# Altium integrated library Xilinx Spartan-3A.IntLib: 90 symbols (part 50 of 55)
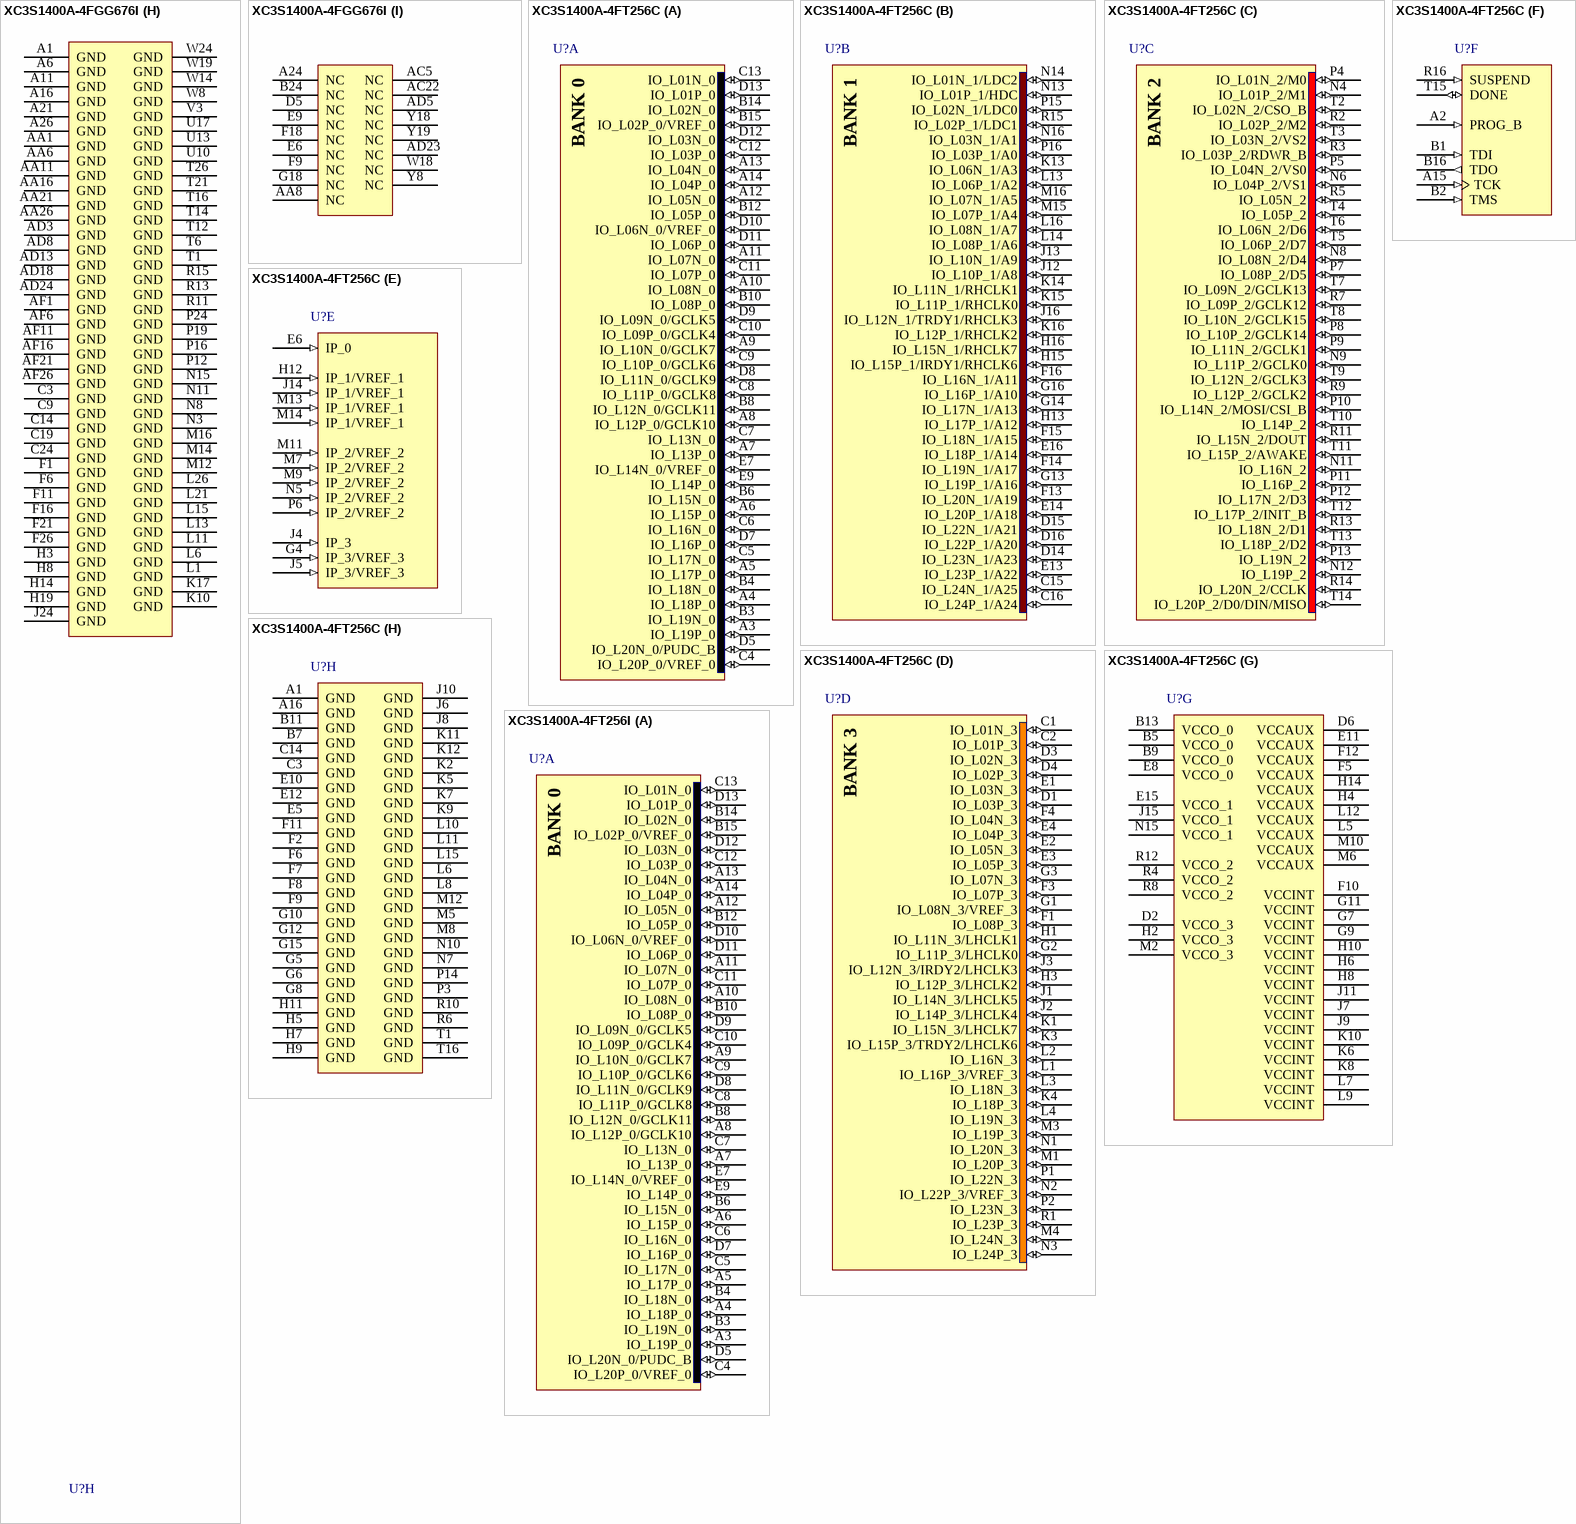
[diagram p145: symbols XC3S1400A-4FGG676I to XC3S1400A-4FT256I]

## XC3S1400A-4FT256C
designator U?
Spartan-3A I/O Optimized FPGA, 161 User I/Os, 256-Ball FTBGA, Standard Performance, Commercial Grade; Published: 17-Oct-2008; LatestRevisionDate: 24-Apr-2009; LatestRevisionNote: Updated to datasheet version 1.8 March 2009; DatasheetVersion: ver1.8, Mar-2009; PackageVersion: ver1.3, Oct-2007; PackageReference: FT256; Publisher: Altium Limited; PackageDescription: 256-Ball Fine Pitch Thin Ball Grid Array 1.00 mm Pitch (FT256); Code_JEDEC: MS-034-AAF-1*; ComponentLink1Description: Manufacturer Link; ComponentLink1URL: http://www.xilinx.com/products/spartan3a/; ComponentLink2Description: Datasheet; ComponentLink2URL: http://www.xilinx.com/support/documentation/data_sheets/ds529.pdf
footprint FT256 (BGA, 256-Leads, Body 17x17mm, Pitch 1mm)
3D model XC3S1400A-FT256 (256-Ball Fine Pitch Thin Ball Grid Array 1.00 mm Pitch (FT256))
signal-integrity model XC3S1400A_FT256 (Spartan-3A)
part A pins: A3 IO_L19P_0 (io), A4 IO_L18P_0 (io), A5 IO_L17P_0 (io), A6 IO_L15P_0 (io), A7 IO_L13P_0 (io), A8 IO_L12P_0/GCLK10 (io), A9 IO_L10N_0/GCLK7 (io), A10 IO_L08N_0 (io), A11 IO_L07N_0 (io), A12 IO_L05N_0 (io), A13 IO_L04N_0 (io), A14 IO_L04P_0 (io), B3 IO_L19N_0 (io), B4 IO_L18N_0 (io), B6 IO_L15N_0 (io), B8 IO_L12N_0/GCLK11 (io), B10 IO_L08P_0 (io), B12 IO_L05P_0 (io), B14 IO_L02N_0 (io), B15 IO_L02P_0/VREF_0 (io), C4 IO_L20P_0/VREF_0 (io), C5 IO_L17N_0 (io), C6 IO_L16N_0 (io), C7 IO_L13N_0 (io), C8 IO_L11P_0/GCLK8 (io), C9 IO_L10P_0/GCLK6 (io), C10 IO_L09P_0/GCLK4 (io), C11 IO_L07P_0 (io), C12 IO_L03P_0 (io), C13 IO_L01N_0 (io), D5 IO_L20N_0/PUDC_B (io), D7 IO_L16P_0 (io), D8 IO_L11N_0/GCLK9 (io), D9 IO_L09N_0/GCLK5 (io), D10 IO_L06N_0/VREF_0 (io), D11 IO_L06P_0 (io), D12 IO_L03N_0 (io), D13 IO_L01P_0 (io), E7 IO_L14N_0/VREF_0 (io), E9 IO_L14P_0 (io)
part B pins: C15 IO_L24N_1/A25 (io), C16 IO_L24P_1/A24 (io), D14 IO_L23N_1/A23 (io), D15 IO_L22N_1/A21 (io), D16 IO_L22P_1/A20 (io), E13 IO_L23P_1/A22 (io), E14 IO_L20P_1/A18 (io), E16 IO_L18P_1/A14 (io), F13 IO_L20N_1/A19 (io), F14 IO_L19N_1/A17 (io), F15 IO_L18N_1/A15 (io), F16 IO_L16N_1/A11 (io), G13 IO_L19P_1/A16 (io), G14 IO_L17N_1/A13 (io), G16 IO_L16P_1/A10 (io), H13 IO_L17P_1/A12 (io), H15 IO_L15P_1/IRDY1/RHCLK6 (io), H16 IO_L15N_1/RHCLK7 (io), J12 IO_L10P_1/A8 (io), J13 IO_L10N_1/A9 (io), J16 IO_L12N_1/TRDY1/RHCLK3 (io), K13 IO_L06N_1/A3 (io), K14 IO_L11N_1/RHCLK1 (io), K15 IO_L11P_1/RHCLK0 (io), K16 IO_L12P_1/RHCLK2 (io), L13 IO_L06P_1/A2 (io), L14 IO_L08P_1/A6 (io), L16 IO_L08N_1/A7 (io), M15 IO_L07P_1/A4 (io), M16 IO_L07N_1/A5 (io), N13 IO_L01P_1/HDC (io), N14 IO_L01N_1/LDC2 (io), N16 IO_L03N_1/A1 (io), P15 IO_L02N_1/LDC0 (io), P16 IO_L03P_1/A0 (io), R15 IO_L02P_1/LDC1 (io)
part C pins: N4 IO_L01P_2/M1 (io), N6 IO_L04P_2/VS1 (io), N8 IO_L08N_2/D4 (io), N9 IO_L11P_2/GCLK0 (io), N11 IO_L16N_2 (io), N12 IO_L19P_2 (io), P4 IO_L01N_2/M0 (io), P5 IO_L04N_2/VS0 (io), P7 IO_L08P_2/D5 (io), P8 IO_L10P_2/GCLK14 (io), P9 IO_L11N_2/GCLK1 (io), P10 IO_L14N_2/MOSI/CSI_B (io), P11 IO_L16P_2 (io), P12 IO_L17N_2/D3 (io), P13 IO_L19N_2 (io), R2 IO_L02P_2/M2 (io), R3 IO_L03P_2/RDWR_B (io), R5 IO_L05N_2 (io), R7 IO_L09P_2/GCLK12 (io), R9 IO_L12P_2/GCLK2 (io), R11 IO_L15N_2/DOUT (io), R13 IO_L18N_2/D1 (io), R14 IO_L20N_2/CCLK (io), T2 IO_L02N_2/CSO_B (io), T3 IO_L03N_2/VS2 (io), T4 IO_L05P_2 (io), T5 IO_L06P_2/D7 (io), T6 IO_L06N_2/D6 (io), T7 IO_L09N_2/GCLK13 (io), T8 IO_L10N_2/GCLK15 (io), T9 IO_L12N_2/GCLK3 (io), T10 IO_L14P_2 (io), T11 IO_L15P_2/AWAKE (io), T12 IO_L17P_2/INIT_B (io), T13 IO_L18P_2/D2 (io), T14 IO_L20P_2/D0/DIN/MISO (io)
part D pins: C1 IO_L01N_3 (io), C2 IO_L01P_3 (io), D1 IO_L03P_3 (io), D3 IO_L02N_3 (io), D4 IO_L02P_3 (io), E1 IO_L03N_3 (io), E2 IO_L05N_3 (io), E3 IO_L05P_3 (io), E4 IO_L04P_3 (io), F1 IO_L08P_3 (io), F3 IO_L07P_3 (io), F4 IO_L04N_3 (io), G1 IO_L08N_3/VREF_3 (io), G2 IO_L11P_3/LHCLK0 (io), G3 IO_L07N_3 (io), H1 IO_L11N_3/LHCLK1 (io), H3 IO_L12P_3/LHCLK2 (io), J1 IO_L14N_3/LHCLK5 (io), J2 IO_L14P_3/LHCLK4 (io), J3 IO_L12N_3/IRDY2/LHCLK3 (io), K1 IO_L15N_3/LHCLK7 (io), K3 IO_L15P_3/TRDY2/LHCLK6 (io), K4 IO_L18P_3 (io), L1 IO_L16P_3/VREF_3 (io), L2 IO_L16N_3 (io), L3 IO_L18N_3 (io), L4 IO_L19N_3 (io), M1 IO_L20P_3 (io), M3 IO_L19P_3 (io), M4 IO_L24N_3 (io), N1 IO_L20N_3 (io), N2 IO_L22P_3/VREF_3 (io), N3 IO_L24P_3 (io), P1 IO_L22N_3 (io), P2 IO_L23N_3 (io), R1 IO_L23P_3 (io)
part E pins: E6 IP_0 (in), G4 IP_3/VREF_3 (in), H12 IP_1/VREF_1 (in), J4 IP_3 (in), J5 IP_3/VREF_3 (in), J14 IP_1/VREF_1 (in), M7 IP_2/VREF_2 (in), M9 IP_2/VREF_2 (in), M11 IP_2/VREF_2 (in), M13 IP_1/VREF_1 (in), M14 IP_1/VREF_1 (in), N5 IP_2/VREF_2 (in), P6 IP_2/VREF_2 (in)
part F pins: A2 PROG_B (in), A15 TCK (in), B1 TDI (in), B2 TMS (in), B16 TDO (out), R16 SUSPEND (in), T15 DONE (io)
part G pins: B5 VCCO_0 (power), B9 VCCO_0 (power), B13 VCCO_0 (power), D2 VCCO_3 (power), D6 VCCAUX (power), E8 VCCO_0 (power), E11 VCCAUX (power), E15 VCCO_1 (power), F5 VCCAUX (power), F10 VCCINT (power), F12 VCCAUX (power), G7 VCCINT (power), G9 VCCINT (power), G11 VCCINT (power), H2 VCCO_3 (power), H4 VCCAUX (power), H6 VCCINT (power), H8 VCCINT (power), H10 VCCINT (power), H14 VCCAUX (power), J7 VCCINT (power), J9 VCCINT (power), J11 VCCINT (power), J15 VCCO_1 (power), K6 VCCINT (power), K8 VCCINT (power), K10 VCCINT (power), L5 VCCAUX (power), L7 VCCINT (power), L9 VCCINT (power), L12 VCCAUX (power), M2 VCCO_3 (power), M6 VCCAUX (power), M10 VCCAUX (power), N15 VCCO_1 (power), R4 VCCO_2 (power), R8 VCCO_2 (power), R12 VCCO_2 (power)
part H pins: A1 GND (power), A16 GND (power), B7 GND (power), B11 GND (power), C3 GND (power), C14 GND (power), E5 GND (power), E10 GND (power), E12 GND (power), F2 GND (power), F6 GND (power), F7 GND (power), F8 GND (power), F9 GND (power), F11 GND (power), G5 GND (power), G6 GND (power), G8 GND (power), G10 GND (power), G12 GND (power), G15 GND (power), H5 GND (power), H7 GND (power), H9 GND (power), H11 GND (power), J6 GND (power), J8 GND (power), J10 GND (power), K2 GND (power), K5 GND (power), K7 GND (power), K9 GND (power), K11 GND (power), K12 GND (power), L6 GND (power), L8 GND (power), L10 GND (power), L11 GND (power), L15 GND (power), M5 GND (power), M8 GND (power), M12 GND (power), N7 GND (power), N10 GND (power), P3 GND (power), P14 GND (power), R6 GND (power), R10 GND (power), T1 GND (power), T16 GND (power)
part A text: BANK 0
part B text: BANK 1
part C text: BANK 2
part D text: BANK 3

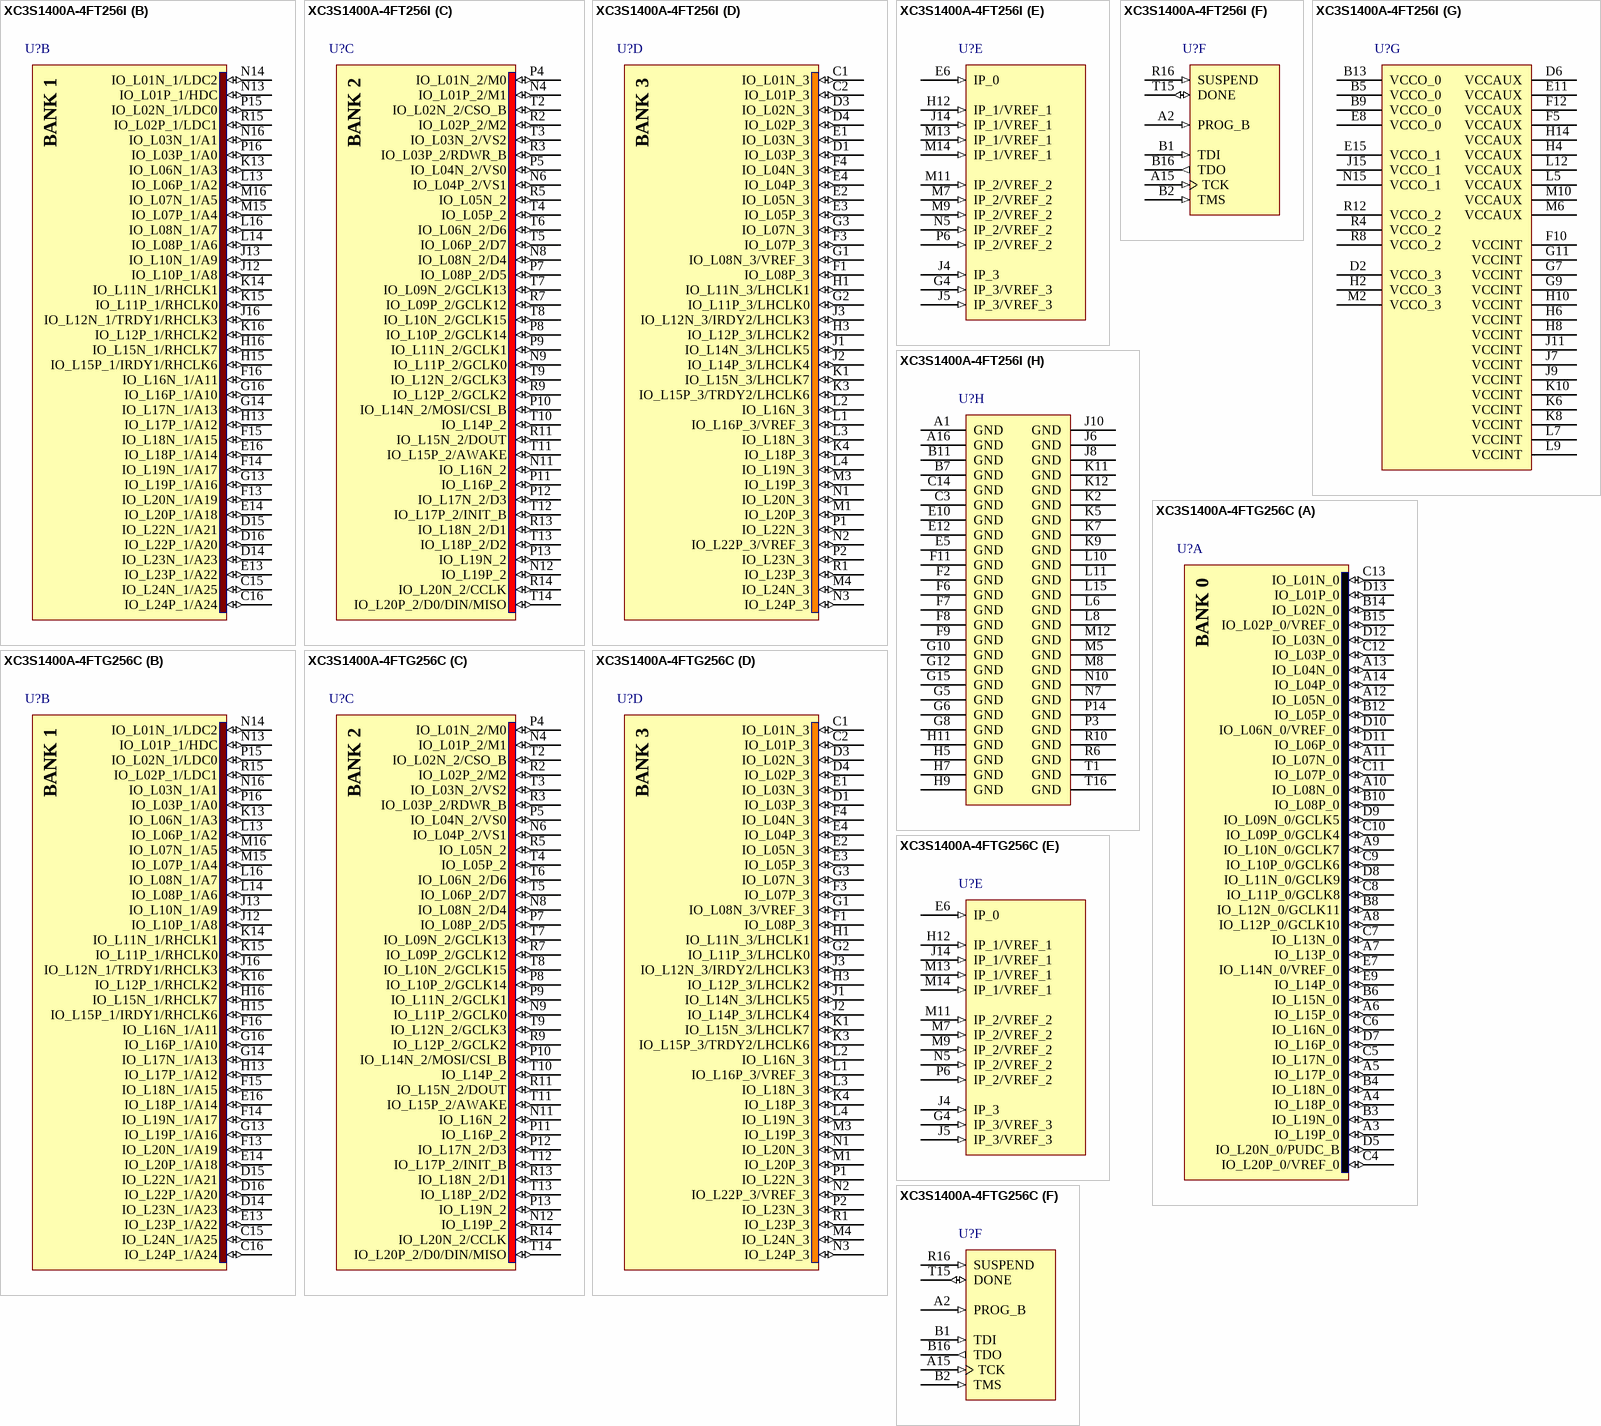
[diagram p87: symbols XC3S1400A-4FT256I to XC3S1400A-4FTG256C]

## XC3S1400A-4FT256I
designator U?
Spartan-3A I/O Optimized FPGA, 161 User I/Os, 256-Ball FTBGA, Standard Performance, Industrial Grade; Published: 17-Oct-2008; LatestRevisionDate: 24-Apr-2009; LatestRevisionNote: Updated to datasheet version 1.8 March 2009; DatasheetVersion: ver1.8, Mar-2009; PackageVersion: ver1.3, Oct-2007; PackageReference: FT256; Publisher: Altium Limited; PackageDescription: 256-Ball Fine Pitch Thin Ball Grid Array 1.00 mm Pitch (FT256); Code_JEDEC: MS-034-AAF-1*; ComponentLink1Description: Manufacturer Link; ComponentLink1URL: http://www.xilinx.com/products/spartan3a/; ComponentLink2Description: Datasheet; ComponentLink2URL: http://www.xilinx.com/support/documentation/data_sheets/ds529.pdf
footprint FT256 (BGA, 256-Leads, Body 17x17mm, Pitch 1mm)
3D model XC3S1400A-FT256 (256-Ball Fine Pitch Thin Ball Grid Array 1.00 mm Pitch (FT256))
signal-integrity model XC3S1400A_FT256 (Spartan-3A)
part A pins: A3 IO_L19P_0 (io), A4 IO_L18P_0 (io), A5 IO_L17P_0 (io), A6 IO_L15P_0 (io), A7 IO_L13P_0 (io), A8 IO_L12P_0/GCLK10 (io), A9 IO_L10N_0/GCLK7 (io), A10 IO_L08N_0 (io), A11 IO_L07N_0 (io), A12 IO_L05N_0 (io), A13 IO_L04N_0 (io), A14 IO_L04P_0 (io), B3 IO_L19N_0 (io), B4 IO_L18N_0 (io), B6 IO_L15N_0 (io), B8 IO_L12N_0/GCLK11 (io), B10 IO_L08P_0 (io), B12 IO_L05P_0 (io), B14 IO_L02N_0 (io), B15 IO_L02P_0/VREF_0 (io), C4 IO_L20P_0/VREF_0 (io), C5 IO_L17N_0 (io), C6 IO_L16N_0 (io), C7 IO_L13N_0 (io), C8 IO_L11P_0/GCLK8 (io), C9 IO_L10P_0/GCLK6 (io), C10 IO_L09P_0/GCLK4 (io), C11 IO_L07P_0 (io), C12 IO_L03P_0 (io), C13 IO_L01N_0 (io), D5 IO_L20N_0/PUDC_B (io), D7 IO_L16P_0 (io), D8 IO_L11N_0/GCLK9 (io), D9 IO_L09N_0/GCLK5 (io), D10 IO_L06N_0/VREF_0 (io), D11 IO_L06P_0 (io), D12 IO_L03N_0 (io), D13 IO_L01P_0 (io), E7 IO_L14N_0/VREF_0 (io), E9 IO_L14P_0 (io)
part B pins: C15 IO_L24N_1/A25 (io), C16 IO_L24P_1/A24 (io), D14 IO_L23N_1/A23 (io), D15 IO_L22N_1/A21 (io), D16 IO_L22P_1/A20 (io), E13 IO_L23P_1/A22 (io), E14 IO_L20P_1/A18 (io), E16 IO_L18P_1/A14 (io), F13 IO_L20N_1/A19 (io), F14 IO_L19N_1/A17 (io), F15 IO_L18N_1/A15 (io), F16 IO_L16N_1/A11 (io), G13 IO_L19P_1/A16 (io), G14 IO_L17N_1/A13 (io), G16 IO_L16P_1/A10 (io), H13 IO_L17P_1/A12 (io), H15 IO_L15P_1/IRDY1/RHCLK6 (io), H16 IO_L15N_1/RHCLK7 (io), J12 IO_L10P_1/A8 (io), J13 IO_L10N_1/A9 (io), J16 IO_L12N_1/TRDY1/RHCLK3 (io), K13 IO_L06N_1/A3 (io), K14 IO_L11N_1/RHCLK1 (io), K15 IO_L11P_1/RHCLK0 (io), K16 IO_L12P_1/RHCLK2 (io), L13 IO_L06P_1/A2 (io), L14 IO_L08P_1/A6 (io), L16 IO_L08N_1/A7 (io), M15 IO_L07P_1/A4 (io), M16 IO_L07N_1/A5 (io), N13 IO_L01P_1/HDC (io), N14 IO_L01N_1/LDC2 (io), N16 IO_L03N_1/A1 (io), P15 IO_L02N_1/LDC0 (io), P16 IO_L03P_1/A0 (io), R15 IO_L02P_1/LDC1 (io)
part C pins: N4 IO_L01P_2/M1 (io), N6 IO_L04P_2/VS1 (io), N8 IO_L08N_2/D4 (io), N9 IO_L11P_2/GCLK0 (io), N11 IO_L16N_2 (io), N12 IO_L19P_2 (io), P4 IO_L01N_2/M0 (io), P5 IO_L04N_2/VS0 (io), P7 IO_L08P_2/D5 (io), P8 IO_L10P_2/GCLK14 (io), P9 IO_L11N_2/GCLK1 (io), P10 IO_L14N_2/MOSI/CSI_B (io), P11 IO_L16P_2 (io), P12 IO_L17N_2/D3 (io), P13 IO_L19N_2 (io), R2 IO_L02P_2/M2 (io), R3 IO_L03P_2/RDWR_B (io), R5 IO_L05N_2 (io), R7 IO_L09P_2/GCLK12 (io), R9 IO_L12P_2/GCLK2 (io), R11 IO_L15N_2/DOUT (io), R13 IO_L18N_2/D1 (io), R14 IO_L20N_2/CCLK (io), T2 IO_L02N_2/CSO_B (io), T3 IO_L03N_2/VS2 (io), T4 IO_L05P_2 (io), T5 IO_L06P_2/D7 (io), T6 IO_L06N_2/D6 (io), T7 IO_L09N_2/GCLK13 (io), T8 IO_L10N_2/GCLK15 (io), T9 IO_L12N_2/GCLK3 (io), T10 IO_L14P_2 (io), T11 IO_L15P_2/AWAKE (io), T12 IO_L17P_2/INIT_B (io), T13 IO_L18P_2/D2 (io), T14 IO_L20P_2/D0/DIN/MISO (io)
part D pins: C1 IO_L01N_3 (io), C2 IO_L01P_3 (io), D1 IO_L03P_3 (io), D3 IO_L02N_3 (io), D4 IO_L02P_3 (io), E1 IO_L03N_3 (io), E2 IO_L05N_3 (io), E3 IO_L05P_3 (io), E4 IO_L04P_3 (io), F1 IO_L08P_3 (io), F3 IO_L07P_3 (io), F4 IO_L04N_3 (io), G1 IO_L08N_3/VREF_3 (io), G2 IO_L11P_3/LHCLK0 (io), G3 IO_L07N_3 (io), H1 IO_L11N_3/LHCLK1 (io), H3 IO_L12P_3/LHCLK2 (io), J1 IO_L14N_3/LHCLK5 (io), J2 IO_L14P_3/LHCLK4 (io), J3 IO_L12N_3/IRDY2/LHCLK3 (io), K1 IO_L15N_3/LHCLK7 (io), K3 IO_L15P_3/TRDY2/LHCLK6 (io), K4 IO_L18P_3 (io), L1 IO_L16P_3/VREF_3 (io), L2 IO_L16N_3 (io), L3 IO_L18N_3 (io), L4 IO_L19N_3 (io), M1 IO_L20P_3 (io), M3 IO_L19P_3 (io), M4 IO_L24N_3 (io), N1 IO_L20N_3 (io), N2 IO_L22P_3/VREF_3 (io), N3 IO_L24P_3 (io), P1 IO_L22N_3 (io), P2 IO_L23N_3 (io), R1 IO_L23P_3 (io)
part E pins: E6 IP_0 (in), G4 IP_3/VREF_3 (in), H12 IP_1/VREF_1 (in), J4 IP_3 (in), J5 IP_3/VREF_3 (in), J14 IP_1/VREF_1 (in), M7 IP_2/VREF_2 (in), M9 IP_2/VREF_2 (in), M11 IP_2/VREF_2 (in), M13 IP_1/VREF_1 (in), M14 IP_1/VREF_1 (in), N5 IP_2/VREF_2 (in), P6 IP_2/VREF_2 (in)
part F pins: A2 PROG_B (in), A15 TCK (in), B1 TDI (in), B2 TMS (in), B16 TDO (out), R16 SUSPEND (in), T15 DONE (io)
part G pins: B5 VCCO_0 (power), B9 VCCO_0 (power), B13 VCCO_0 (power), D2 VCCO_3 (power), D6 VCCAUX (power), E8 VCCO_0 (power), E11 VCCAUX (power), E15 VCCO_1 (power), F5 VCCAUX (power), F10 VCCINT (power), F12 VCCAUX (power), G7 VCCINT (power), G9 VCCINT (power), G11 VCCINT (power), H2 VCCO_3 (power), H4 VCCAUX (power), H6 VCCINT (power), H8 VCCINT (power), H10 VCCINT (power), H14 VCCAUX (power), J7 VCCINT (power), J9 VCCINT (power), J11 VCCINT (power), J15 VCCO_1 (power), K6 VCCINT (power), K8 VCCINT (power), K10 VCCINT (power), L5 VCCAUX (power), L7 VCCINT (power), L9 VCCINT (power), L12 VCCAUX (power), M2 VCCO_3 (power), M6 VCCAUX (power), M10 VCCAUX (power), N15 VCCO_1 (power), R4 VCCO_2 (power), R8 VCCO_2 (power), R12 VCCO_2 (power)
part H pins: A1 GND (power), A16 GND (power), B7 GND (power), B11 GND (power), C3 GND (power), C14 GND (power), E5 GND (power), E10 GND (power), E12 GND (power), F2 GND (power), F6 GND (power), F7 GND (power), F8 GND (power), F9 GND (power), F11 GND (power), G5 GND (power), G6 GND (power), G8 GND (power), G10 GND (power), G12 GND (power), G15 GND (power), H5 GND (power), H7 GND (power), H9 GND (power), H11 GND (power), J6 GND (power), J8 GND (power), J10 GND (power), K2 GND (power), K5 GND (power), K7 GND (power), K9 GND (power), K11 GND (power), K12 GND (power), L6 GND (power), L8 GND (power), L10 GND (power), L11 GND (power), L15 GND (power), M5 GND (power), M8 GND (power), M12 GND (power), N7 GND (power), N10 GND (power), P3 GND (power), P14 GND (power), R6 GND (power), R10 GND (power), T1 GND (power), T16 GND (power)
part A text: BANK 0
part B text: BANK 1
part C text: BANK 2
part D text: BANK 3

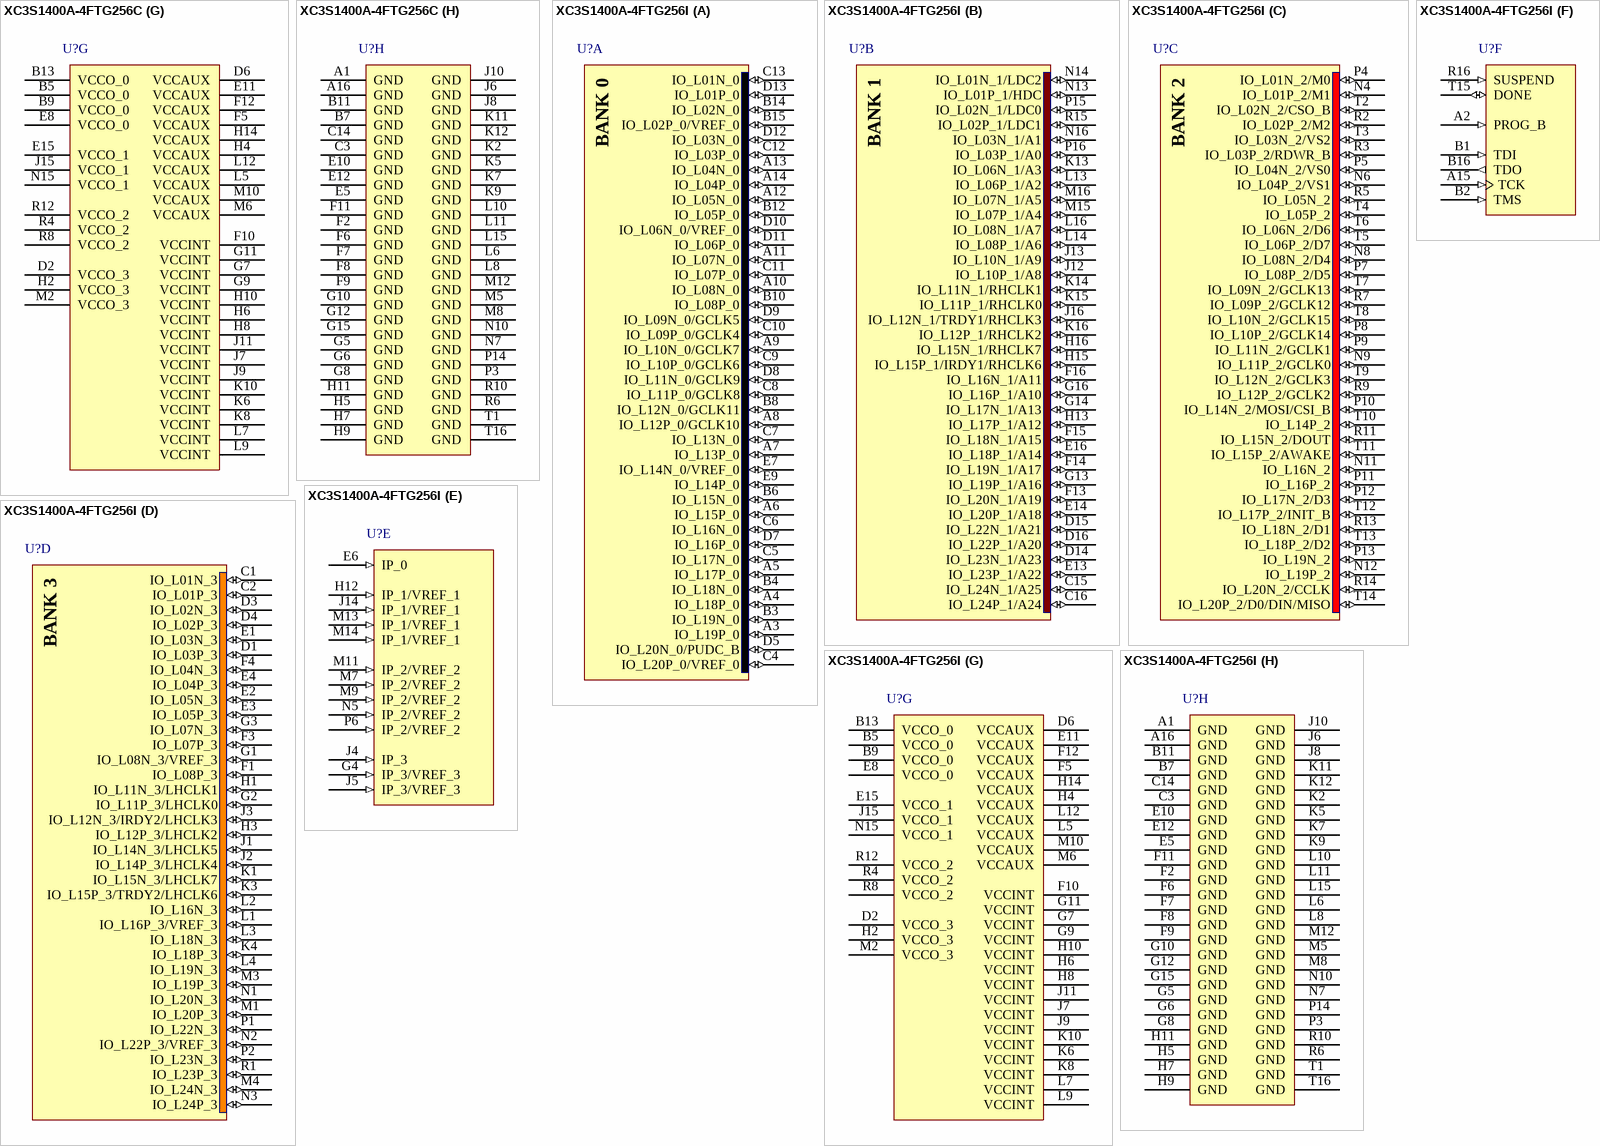
[diagram p88: symbols XC3S1400A-4FTG256C to XC3S1400A-4FTG256I]

## XC3S1400A-4FTG256C
designator U?
Spartan-3A I/O Optimized FPGA, 161 User I/Os, 256-Ball Pb-Free FTBGA, Standard Performance, Commercial Grade; Published: 17-Oct-2008; LatestRevisionDate: 24-Apr-2009; LatestRevisionNote: Updated to datasheet version 1.8 March 2009; DatasheetVersion: ver1.8, Mar-2009; PackageVersion: ver1.3, Oct-2007; PackageReference: FTG256; Publisher: Altium Limited; PackageDescription: 256-Ball Fine Pitch Thin Ball Grid Array 1.00 mm Pitch (FTG256) - Pb-Free; Code_JEDEC: MS-034-AAF-1*; ComponentLink1Description: Manufacturer Link; ComponentLink1URL: http://www.xilinx.com/products/spartan3a/; ComponentLink2Description: Datasheet; ComponentLink2URL: http://www.xilinx.com/support/documentation/data_sheets/ds529.pdf
footprint FTG256 (BGA, 256-Leads, Body 17x17mm, Pitch 1mm)
3D model XC3S1400A-FT256 (256-Ball Fine Pitch Thin Ball Grid Array 1.00 mm Pitch (FTG256) - Pb-Free)
signal-integrity model XC3S1400A_FTG256 (Spartan-3A)
part A pins: A3 IO_L19P_0 (io), A4 IO_L18P_0 (io), A5 IO_L17P_0 (io), A6 IO_L15P_0 (io), A7 IO_L13P_0 (io), A8 IO_L12P_0/GCLK10 (io), A9 IO_L10N_0/GCLK7 (io), A10 IO_L08N_0 (io), A11 IO_L07N_0 (io), A12 IO_L05N_0 (io), A13 IO_L04N_0 (io), A14 IO_L04P_0 (io), B3 IO_L19N_0 (io), B4 IO_L18N_0 (io), B6 IO_L15N_0 (io), B8 IO_L12N_0/GCLK11 (io), B10 IO_L08P_0 (io), B12 IO_L05P_0 (io), B14 IO_L02N_0 (io), B15 IO_L02P_0/VREF_0 (io), C4 IO_L20P_0/VREF_0 (io), C5 IO_L17N_0 (io), C6 IO_L16N_0 (io), C7 IO_L13N_0 (io), C8 IO_L11P_0/GCLK8 (io), C9 IO_L10P_0/GCLK6 (io), C10 IO_L09P_0/GCLK4 (io), C11 IO_L07P_0 (io), C12 IO_L03P_0 (io), C13 IO_L01N_0 (io), D5 IO_L20N_0/PUDC_B (io), D7 IO_L16P_0 (io), D8 IO_L11N_0/GCLK9 (io), D9 IO_L09N_0/GCLK5 (io), D10 IO_L06N_0/VREF_0 (io), D11 IO_L06P_0 (io), D12 IO_L03N_0 (io), D13 IO_L01P_0 (io), E7 IO_L14N_0/VREF_0 (io), E9 IO_L14P_0 (io)
part B pins: C15 IO_L24N_1/A25 (io), C16 IO_L24P_1/A24 (io), D14 IO_L23N_1/A23 (io), D15 IO_L22N_1/A21 (io), D16 IO_L22P_1/A20 (io), E13 IO_L23P_1/A22 (io), E14 IO_L20P_1/A18 (io), E16 IO_L18P_1/A14 (io), F13 IO_L20N_1/A19 (io), F14 IO_L19N_1/A17 (io), F15 IO_L18N_1/A15 (io), F16 IO_L16N_1/A11 (io), G13 IO_L19P_1/A16 (io), G14 IO_L17N_1/A13 (io), G16 IO_L16P_1/A10 (io), H13 IO_L17P_1/A12 (io), H15 IO_L15P_1/IRDY1/RHCLK6 (io), H16 IO_L15N_1/RHCLK7 (io), J12 IO_L10P_1/A8 (io), J13 IO_L10N_1/A9 (io), J16 IO_L12N_1/TRDY1/RHCLK3 (io), K13 IO_L06N_1/A3 (io), K14 IO_L11N_1/RHCLK1 (io), K15 IO_L11P_1/RHCLK0 (io), K16 IO_L12P_1/RHCLK2 (io), L13 IO_L06P_1/A2 (io), L14 IO_L08P_1/A6 (io), L16 IO_L08N_1/A7 (io), M15 IO_L07P_1/A4 (io), M16 IO_L07N_1/A5 (io), N13 IO_L01P_1/HDC (io), N14 IO_L01N_1/LDC2 (io), N16 IO_L03N_1/A1 (io), P15 IO_L02N_1/LDC0 (io), P16 IO_L03P_1/A0 (io), R15 IO_L02P_1/LDC1 (io)
part C pins: N4 IO_L01P_2/M1 (io), N6 IO_L04P_2/VS1 (io), N8 IO_L08N_2/D4 (io), N9 IO_L11P_2/GCLK0 (io), N11 IO_L16N_2 (io), N12 IO_L19P_2 (io), P4 IO_L01N_2/M0 (io), P5 IO_L04N_2/VS0 (io), P7 IO_L08P_2/D5 (io), P8 IO_L10P_2/GCLK14 (io), P9 IO_L11N_2/GCLK1 (io), P10 IO_L14N_2/MOSI/CSI_B (io), P11 IO_L16P_2 (io), P12 IO_L17N_2/D3 (io), P13 IO_L19N_2 (io), R2 IO_L02P_2/M2 (io), R3 IO_L03P_2/RDWR_B (io), R5 IO_L05N_2 (io), R7 IO_L09P_2/GCLK12 (io), R9 IO_L12P_2/GCLK2 (io), R11 IO_L15N_2/DOUT (io), R13 IO_L18N_2/D1 (io), R14 IO_L20N_2/CCLK (io), T2 IO_L02N_2/CSO_B (io), T3 IO_L03N_2/VS2 (io), T4 IO_L05P_2 (io), T5 IO_L06P_2/D7 (io), T6 IO_L06N_2/D6 (io), T7 IO_L09N_2/GCLK13 (io), T8 IO_L10N_2/GCLK15 (io), T9 IO_L12N_2/GCLK3 (io), T10 IO_L14P_2 (io), T11 IO_L15P_2/AWAKE (io), T12 IO_L17P_2/INIT_B (io), T13 IO_L18P_2/D2 (io), T14 IO_L20P_2/D0/DIN/MISO (io)
part D pins: C1 IO_L01N_3 (io), C2 IO_L01P_3 (io), D1 IO_L03P_3 (io), D3 IO_L02N_3 (io), D4 IO_L02P_3 (io), E1 IO_L03N_3 (io), E2 IO_L05N_3 (io), E3 IO_L05P_3 (io), E4 IO_L04P_3 (io), F1 IO_L08P_3 (io), F3 IO_L07P_3 (io), F4 IO_L04N_3 (io), G1 IO_L08N_3/VREF_3 (io), G2 IO_L11P_3/LHCLK0 (io), G3 IO_L07N_3 (io), H1 IO_L11N_3/LHCLK1 (io), H3 IO_L12P_3/LHCLK2 (io), J1 IO_L14N_3/LHCLK5 (io), J2 IO_L14P_3/LHCLK4 (io), J3 IO_L12N_3/IRDY2/LHCLK3 (io), K1 IO_L15N_3/LHCLK7 (io), K3 IO_L15P_3/TRDY2/LHCLK6 (io), K4 IO_L18P_3 (io), L1 IO_L16P_3/VREF_3 (io), L2 IO_L16N_3 (io), L3 IO_L18N_3 (io), L4 IO_L19N_3 (io), M1 IO_L20P_3 (io), M3 IO_L19P_3 (io), M4 IO_L24N_3 (io), N1 IO_L20N_3 (io), N2 IO_L22P_3/VREF_3 (io), N3 IO_L24P_3 (io), P1 IO_L22N_3 (io), P2 IO_L23N_3 (io), R1 IO_L23P_3 (io)
part E pins: E6 IP_0 (in), G4 IP_3/VREF_3 (in), H12 IP_1/VREF_1 (in), J4 IP_3 (in), J5 IP_3/VREF_3 (in), J14 IP_1/VREF_1 (in), M7 IP_2/VREF_2 (in), M9 IP_2/VREF_2 (in), M11 IP_2/VREF_2 (in), M13 IP_1/VREF_1 (in), M14 IP_1/VREF_1 (in), N5 IP_2/VREF_2 (in), P6 IP_2/VREF_2 (in)
part F pins: A2 PROG_B (in), A15 TCK (in), B1 TDI (in), B2 TMS (in), B16 TDO (out), R16 SUSPEND (in), T15 DONE (io)
part G pins: B5 VCCO_0 (power), B9 VCCO_0 (power), B13 VCCO_0 (power), D2 VCCO_3 (power), D6 VCCAUX (power), E8 VCCO_0 (power), E11 VCCAUX (power), E15 VCCO_1 (power), F5 VCCAUX (power), F10 VCCINT (power), F12 VCCAUX (power), G7 VCCINT (power), G9 VCCINT (power), G11 VCCINT (power), H2 VCCO_3 (power), H4 VCCAUX (power), H6 VCCINT (power), H8 VCCINT (power), H10 VCCINT (power), H14 VCCAUX (power), J7 VCCINT (power), J9 VCCINT (power), J11 VCCINT (power), J15 VCCO_1 (power), K6 VCCINT (power), K8 VCCINT (power), K10 VCCINT (power), L5 VCCAUX (power), L7 VCCINT (power), L9 VCCINT (power), L12 VCCAUX (power), M2 VCCO_3 (power), M6 VCCAUX (power), M10 VCCAUX (power), N15 VCCO_1 (power), R4 VCCO_2 (power), R8 VCCO_2 (power), R12 VCCO_2 (power)
part H pins: A1 GND (power), A16 GND (power), B7 GND (power), B11 GND (power), C3 GND (power), C14 GND (power), E5 GND (power), E10 GND (power), E12 GND (power), F2 GND (power), F6 GND (power), F7 GND (power), F8 GND (power), F9 GND (power), F11 GND (power), G5 GND (power), G6 GND (power), G8 GND (power), G10 GND (power), G12 GND (power), G15 GND (power), H5 GND (power), H7 GND (power), H9 GND (power), H11 GND (power), J6 GND (power), J8 GND (power), J10 GND (power), K2 GND (power), K5 GND (power), K7 GND (power), K9 GND (power), K11 GND (power), K12 GND (power), L6 GND (power), L8 GND (power), L10 GND (power), L11 GND (power), L15 GND (power), M5 GND (power), M8 GND (power), M12 GND (power), N7 GND (power), N10 GND (power), P3 GND (power), P14 GND (power), R6 GND (power), R10 GND (power), T1 GND (power), T16 GND (power)
part A text: BANK 0
part B text: BANK 1
part C text: BANK 2
part D text: BANK 3

## XC3S1400A-4FTG256I
designator U?
Spartan-3A I/O Optimized FPGA, 161 User I/Os, 256-Ball Pb-Free FTBGA, Standard Performance, Industrial Grade; Published: 17-Oct-2008; LatestRevisionDate: 24-Apr-2009; LatestRevisionNote: Updated to datasheet version 1.8 March 2009; DatasheetVersion: ver1.8, Mar-2009; PackageVersion: ver1.3, Oct-2007; PackageReference: FTG256; Publisher: Altium Limited; PackageDescription: 256-Ball Fine Pitch Thin Ball Grid Array 1.00 mm Pitch (FTG256) - Pb-Free; Code_JEDEC: MS-034-AAF-1*; ComponentLink1Description: Manufacturer Link; ComponentLink1URL: http://www.xilinx.com/products/spartan3a/; ComponentLink2Description: Datasheet; ComponentLink2URL: http://www.xilinx.com/support/documentation/data_sheets/ds529.pdf
footprint FTG256 (BGA, 256-Leads, Body 17x17mm, Pitch 1mm)
3D model XC3S1400A-FT256 (256-Ball Fine Pitch Thin Ball Grid Array 1.00 mm Pitch (FTG256) - Pb-Free)
signal-integrity model XC3S1400A_FTG256 (Spartan-3A)
part A pins: A3 IO_L19P_0 (io), A4 IO_L18P_0 (io), A5 IO_L17P_0 (io), A6 IO_L15P_0 (io), A7 IO_L13P_0 (io), A8 IO_L12P_0/GCLK10 (io), A9 IO_L10N_0/GCLK7 (io), A10 IO_L08N_0 (io), A11 IO_L07N_0 (io), A12 IO_L05N_0 (io), A13 IO_L04N_0 (io), A14 IO_L04P_0 (io), B3 IO_L19N_0 (io), B4 IO_L18N_0 (io), B6 IO_L15N_0 (io), B8 IO_L12N_0/GCLK11 (io), B10 IO_L08P_0 (io), B12 IO_L05P_0 (io), B14 IO_L02N_0 (io), B15 IO_L02P_0/VREF_0 (io), C4 IO_L20P_0/VREF_0 (io), C5 IO_L17N_0 (io), C6 IO_L16N_0 (io), C7 IO_L13N_0 (io), C8 IO_L11P_0/GCLK8 (io), C9 IO_L10P_0/GCLK6 (io), C10 IO_L09P_0/GCLK4 (io), C11 IO_L07P_0 (io), C12 IO_L03P_0 (io), C13 IO_L01N_0 (io), D5 IO_L20N_0/PUDC_B (io), D7 IO_L16P_0 (io), D8 IO_L11N_0/GCLK9 (io), D9 IO_L09N_0/GCLK5 (io), D10 IO_L06N_0/VREF_0 (io), D11 IO_L06P_0 (io), D12 IO_L03N_0 (io), D13 IO_L01P_0 (io), E7 IO_L14N_0/VREF_0 (io), E9 IO_L14P_0 (io)
part B pins: C15 IO_L24N_1/A25 (io), C16 IO_L24P_1/A24 (io), D14 IO_L23N_1/A23 (io), D15 IO_L22N_1/A21 (io), D16 IO_L22P_1/A20 (io), E13 IO_L23P_1/A22 (io), E14 IO_L20P_1/A18 (io), E16 IO_L18P_1/A14 (io), F13 IO_L20N_1/A19 (io), F14 IO_L19N_1/A17 (io), F15 IO_L18N_1/A15 (io), F16 IO_L16N_1/A11 (io), G13 IO_L19P_1/A16 (io), G14 IO_L17N_1/A13 (io), G16 IO_L16P_1/A10 (io), H13 IO_L17P_1/A12 (io), H15 IO_L15P_1/IRDY1/RHCLK6 (io), H16 IO_L15N_1/RHCLK7 (io), J12 IO_L10P_1/A8 (io), J13 IO_L10N_1/A9 (io), J16 IO_L12N_1/TRDY1/RHCLK3 (io), K13 IO_L06N_1/A3 (io), K14 IO_L11N_1/RHCLK1 (io), K15 IO_L11P_1/RHCLK0 (io), K16 IO_L12P_1/RHCLK2 (io), L13 IO_L06P_1/A2 (io), L14 IO_L08P_1/A6 (io), L16 IO_L08N_1/A7 (io), M15 IO_L07P_1/A4 (io), M16 IO_L07N_1/A5 (io), N13 IO_L01P_1/HDC (io), N14 IO_L01N_1/LDC2 (io), N16 IO_L03N_1/A1 (io), P15 IO_L02N_1/LDC0 (io), P16 IO_L03P_1/A0 (io), R15 IO_L02P_1/LDC1 (io)
part C pins: N4 IO_L01P_2/M1 (io), N6 IO_L04P_2/VS1 (io), N8 IO_L08N_2/D4 (io), N9 IO_L11P_2/GCLK0 (io), N11 IO_L16N_2 (io), N12 IO_L19P_2 (io), P4 IO_L01N_2/M0 (io), P5 IO_L04N_2/VS0 (io), P7 IO_L08P_2/D5 (io), P8 IO_L10P_2/GCLK14 (io), P9 IO_L11N_2/GCLK1 (io), P10 IO_L14N_2/MOSI/CSI_B (io), P11 IO_L16P_2 (io), P12 IO_L17N_2/D3 (io), P13 IO_L19N_2 (io), R2 IO_L02P_2/M2 (io), R3 IO_L03P_2/RDWR_B (io), R5 IO_L05N_2 (io), R7 IO_L09P_2/GCLK12 (io), R9 IO_L12P_2/GCLK2 (io), R11 IO_L15N_2/DOUT (io), R13 IO_L18N_2/D1 (io), R14 IO_L20N_2/CCLK (io), T2 IO_L02N_2/CSO_B (io), T3 IO_L03N_2/VS2 (io), T4 IO_L05P_2 (io), T5 IO_L06P_2/D7 (io), T6 IO_L06N_2/D6 (io), T7 IO_L09N_2/GCLK13 (io), T8 IO_L10N_2/GCLK15 (io), T9 IO_L12N_2/GCLK3 (io), T10 IO_L14P_2 (io), T11 IO_L15P_2/AWAKE (io), T12 IO_L17P_2/INIT_B (io), T13 IO_L18P_2/D2 (io), T14 IO_L20P_2/D0/DIN/MISO (io)
part D pins: C1 IO_L01N_3 (io), C2 IO_L01P_3 (io), D1 IO_L03P_3 (io), D3 IO_L02N_3 (io), D4 IO_L02P_3 (io), E1 IO_L03N_3 (io), E2 IO_L05N_3 (io), E3 IO_L05P_3 (io), E4 IO_L04P_3 (io), F1 IO_L08P_3 (io), F3 IO_L07P_3 (io), F4 IO_L04N_3 (io), G1 IO_L08N_3/VREF_3 (io), G2 IO_L11P_3/LHCLK0 (io), G3 IO_L07N_3 (io), H1 IO_L11N_3/LHCLK1 (io), H3 IO_L12P_3/LHCLK2 (io), J1 IO_L14N_3/LHCLK5 (io), J2 IO_L14P_3/LHCLK4 (io), J3 IO_L12N_3/IRDY2/LHCLK3 (io), K1 IO_L15N_3/LHCLK7 (io), K3 IO_L15P_3/TRDY2/LHCLK6 (io), K4 IO_L18P_3 (io), L1 IO_L16P_3/VREF_3 (io), L2 IO_L16N_3 (io), L3 IO_L18N_3 (io), L4 IO_L19N_3 (io), M1 IO_L20P_3 (io), M3 IO_L19P_3 (io), M4 IO_L24N_3 (io), N1 IO_L20N_3 (io), N2 IO_L22P_3/VREF_3 (io), N3 IO_L24P_3 (io), P1 IO_L22N_3 (io), P2 IO_L23N_3 (io), R1 IO_L23P_3 (io)
part E pins: E6 IP_0 (in), G4 IP_3/VREF_3 (in), H12 IP_1/VREF_1 (in), J4 IP_3 (in), J5 IP_3/VREF_3 (in), J14 IP_1/VREF_1 (in), M7 IP_2/VREF_2 (in), M9 IP_2/VREF_2 (in), M11 IP_2/VREF_2 (in), M13 IP_1/VREF_1 (in), M14 IP_1/VREF_1 (in), N5 IP_2/VREF_2 (in), P6 IP_2/VREF_2 (in)
part F pins: A2 PROG_B (in), A15 TCK (in), B1 TDI (in), B2 TMS (in), B16 TDO (out), R16 SUSPEND (in), T15 DONE (io)
part G pins: B5 VCCO_0 (power), B9 VCCO_0 (power), B13 VCCO_0 (power), D2 VCCO_3 (power), D6 VCCAUX (power), E8 VCCO_0 (power), E11 VCCAUX (power), E15 VCCO_1 (power), F5 VCCAUX (power), F10 VCCINT (power), F12 VCCAUX (power), G7 VCCINT (power), G9 VCCINT (power), G11 VCCINT (power), H2 VCCO_3 (power), H4 VCCAUX (power), H6 VCCINT (power), H8 VCCINT (power), H10 VCCINT (power), H14 VCCAUX (power), J7 VCCINT (power), J9 VCCINT (power), J11 VCCINT (power), J15 VCCO_1 (power), K6 VCCINT (power), K8 VCCINT (power), K10 VCCINT (power), L5 VCCAUX (power), L7 VCCINT (power), L9 VCCINT (power), L12 VCCAUX (power), M2 VCCO_3 (power), M6 VCCAUX (power), M10 VCCAUX (power), N15 VCCO_1 (power), R4 VCCO_2 (power), R8 VCCO_2 (power), R12 VCCO_2 (power)
part H pins: A1 GND (power), A16 GND (power), B7 GND (power), B11 GND (power), C3 GND (power), C14 GND (power), E5 GND (power), E10 GND (power), E12 GND (power), F2 GND (power), F6 GND (power), F7 GND (power), F8 GND (power), F9 GND (power), F11 GND (power), G5 GND (power), G6 GND (power), G8 GND (power), G10 GND (power), G12 GND (power), G15 GND (power), H5 GND (power), H7 GND (power), H9 GND (power), H11 GND (power), J6 GND (power), J8 GND (power), J10 GND (power), K2 GND (power), K5 GND (power), K7 GND (power), K9 GND (power), K11 GND (power), K12 GND (power), L6 GND (power), L8 GND (power), L10 GND (power), L11 GND (power), L15 GND (power), M5 GND (power), M8 GND (power), M12 GND (power), N7 GND (power), N10 GND (power), P3 GND (power), P14 GND (power), R6 GND (power), R10 GND (power), T1 GND (power), T16 GND (power)
part A text: BANK 0
part B text: BANK 1
part C text: BANK 2
part D text: BANK 3

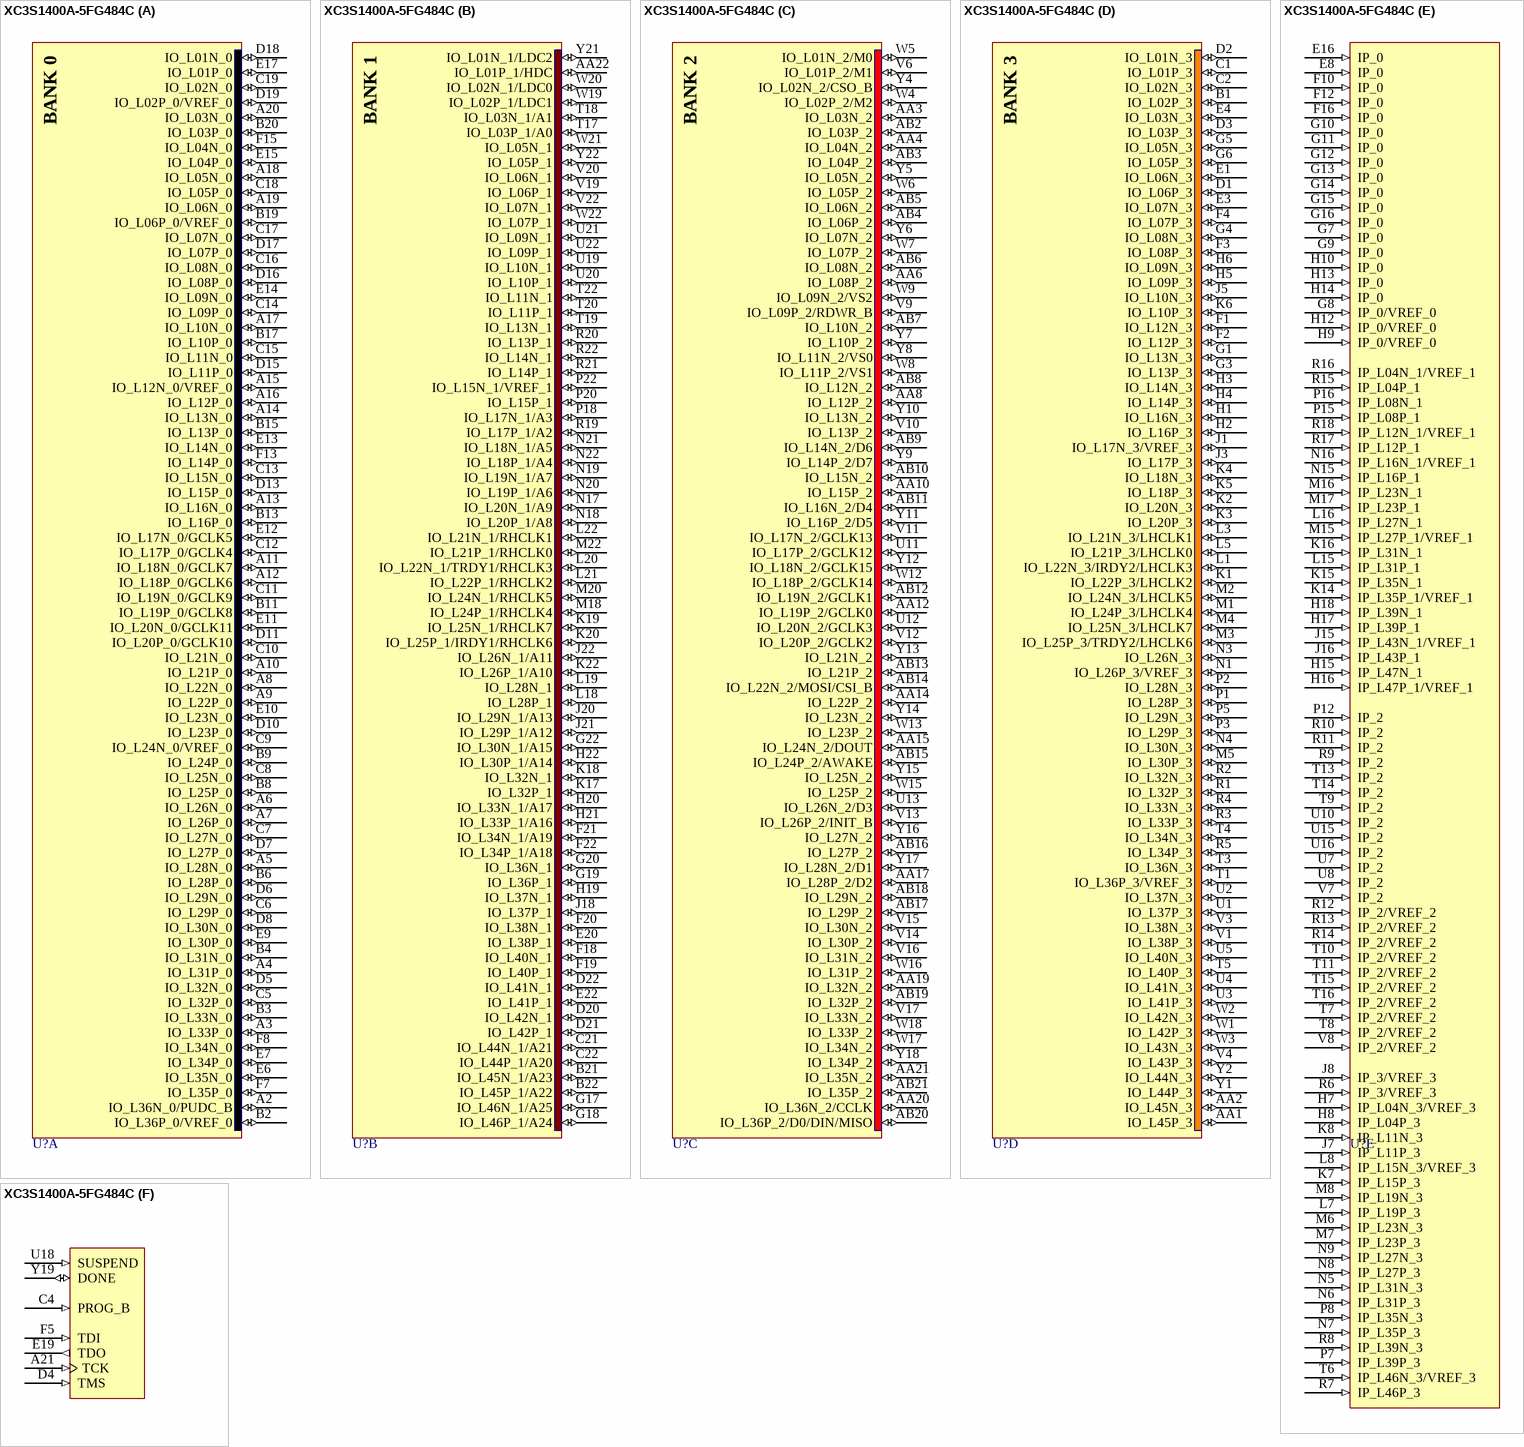
[diagram p89: symbol XC3S1400A-5FG484C]

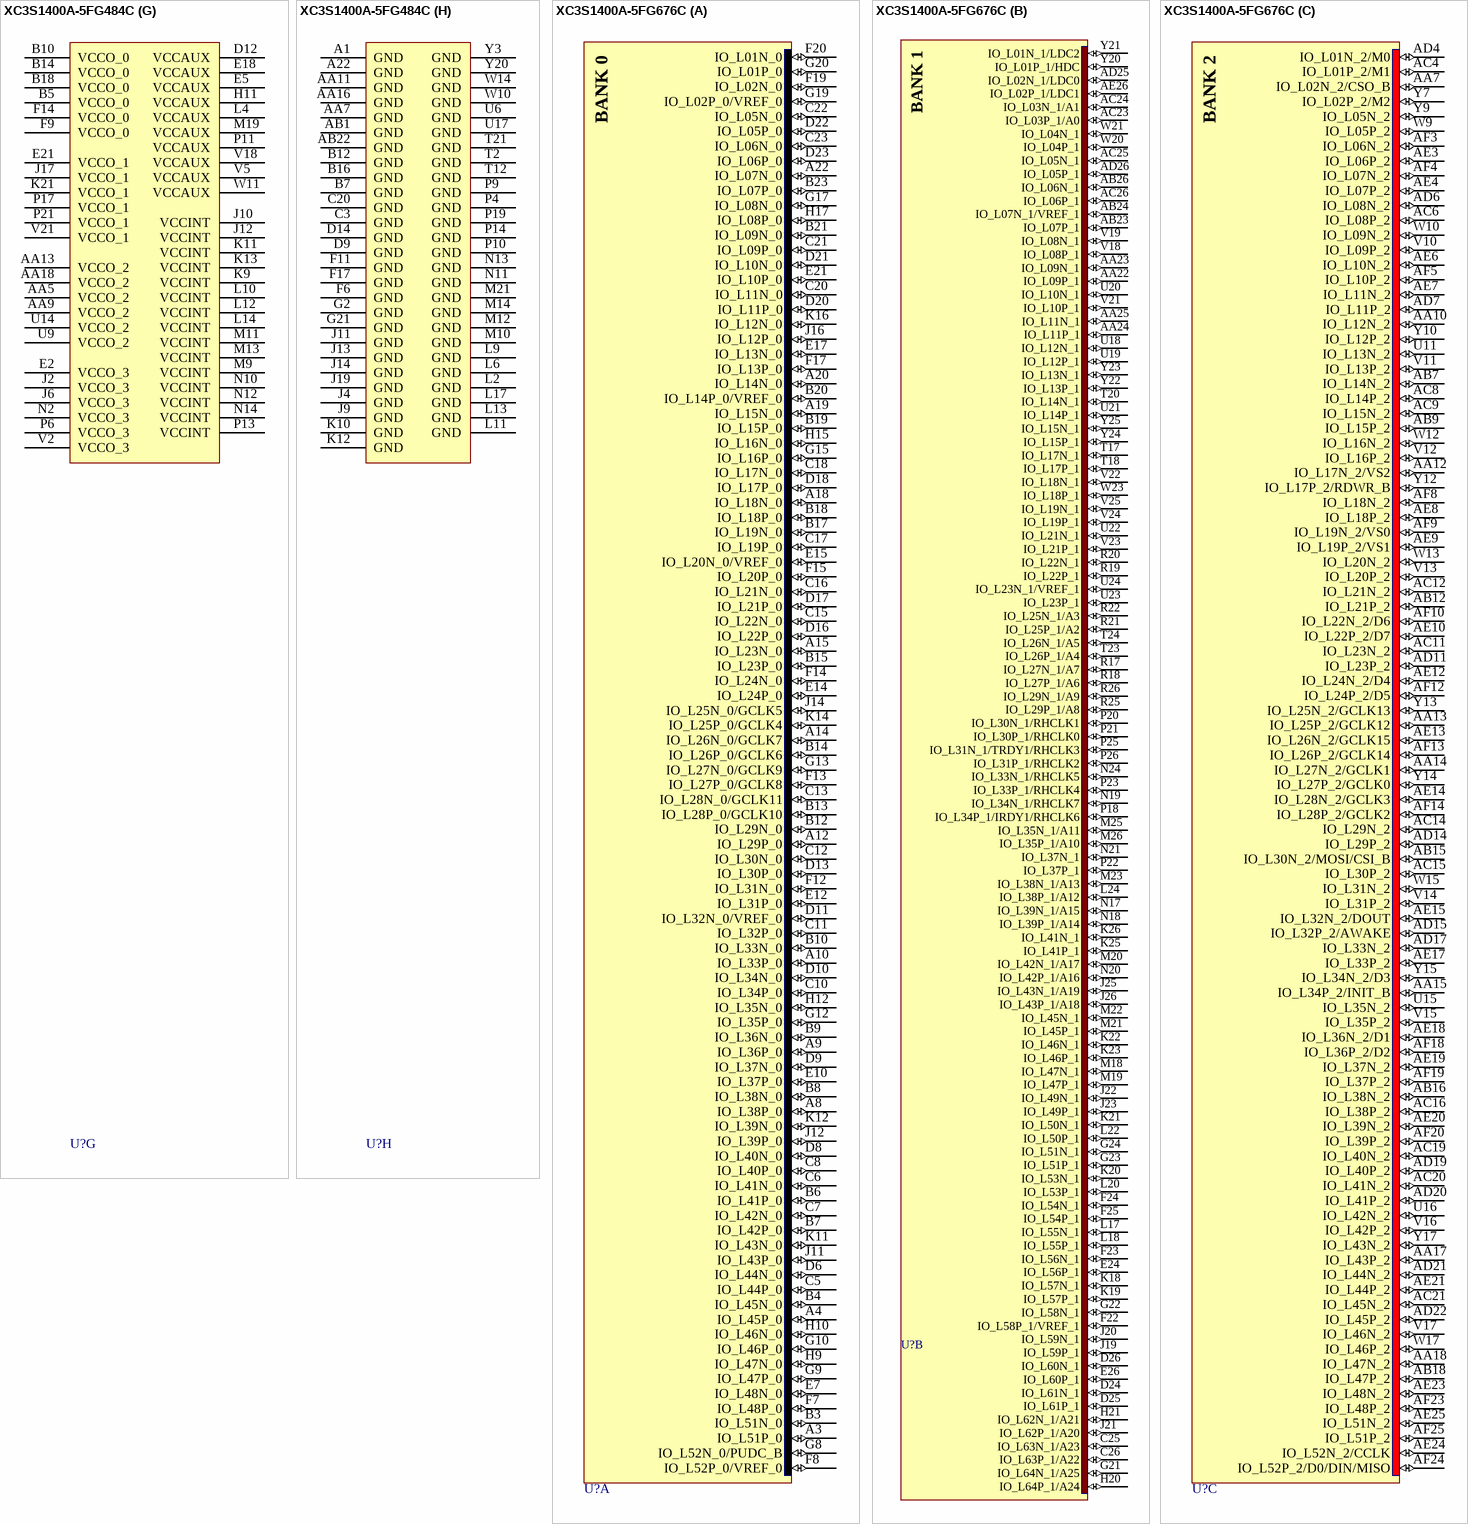
[diagram p90: symbols XC3S1400A-5FG484C to XC3S1400A-5FG676C]